# EAGLE library part VCNL4020 (library ic-Vishay)
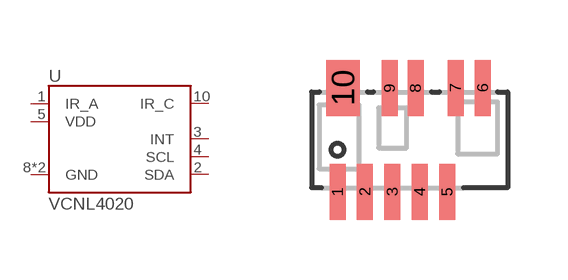
[diagram p1: symbol with the pads of VCNL4020; footprint VCNL4020]

Designator prefix U

## VCNL4020  [VCNL4020]
1  IR_A
2  SDA
3  INT
4  SCL
5  VDD
8  GND
9  GND
10  IR_C

## Footprint VCNL4020 (pad centres in mm)
smd 0.4 x 1.4: 1 -1.8,-1.3; 2 -1.115,-1.3; 3 -0.43,-1.3; 4 0.255,-1.3; 5 0.94,-1.3; 6 1.83,1.3; 7 1.15,1.3; 8 0.15,1.3; 9 -0.5,1.3
smd 0.83 x 1.4: 10 -1.665,1.3